# EAGLE library part 504050-1091 (library 504050-1091)
Pico-Lock SMT Wire-to-Board Header 10way Molex 504050 Series, 1.5mm Pitch 10 Way 1 Row Right Angle PCB Header, SMT Termination, 3A Source: Datasheet <https://componentsearchengine.com/Datasheets/1/504050-1091.pdf>
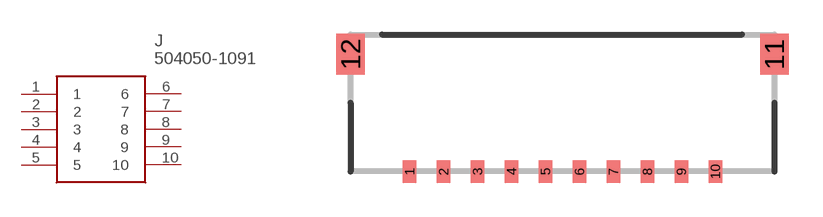
[diagram p0: symbol with the pads of 504050-1091; footprint 504050-1091]

Designator prefix J

## 504050-1091 (Description: Pico-Lock SMT Wire-to-Board Header 10way Molex 504050 Series, 1.5mm Pitch 10 Way 1 Row Right Angle PCB Header, SMT Termination, 3A; Height: mm; Manufacturer_Name: Molex; Manufacturer_Part_Number: 504050-1091; Mouser_Part_Number: 538-504050-1091; Mouser_Price-Stock: https://www.mouser.com/Search/Refine.aspx?Keyword=538-504050-1091)  [504050-1091]
1  1
2  2
3  3
4  4
5  5
6  6
7  7
8  8
9  9
10  10

## Footprint 504050-1091 (pad centres in mm)
504050-1091
smd 0.6 x 1: 1 -13.5,0; 2 -12,0; 3 -10.5,0; 4 -9,0; 5 -7.5,0; 6 -6,0; 7 -4.5,0; 8 -3,0; 9 -1.5,0; 10 0,0
smd 1.25 x 1.8: 11 2.605,5.19; 12 -16.105,5.19